# EAGLE library part USB-2410-06 (library parts)
Lumberg 2410 06 USB-A connector
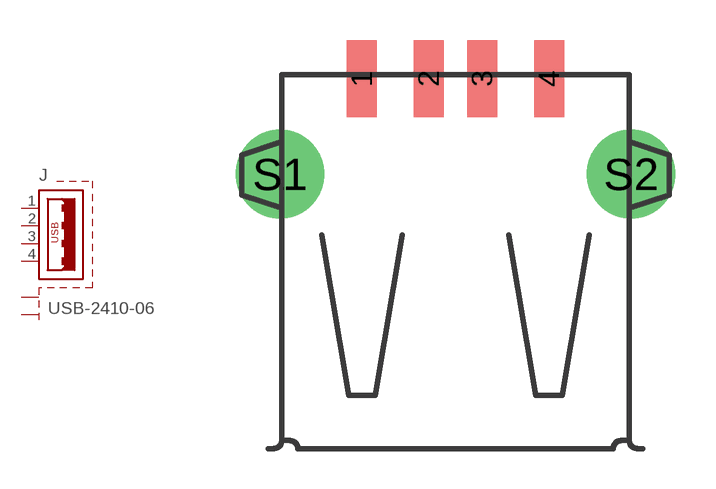
[diagram p7: symbol with the pads of USB-2410-06; footprint USB-2410-06]

Designator prefix J

## USB-2410-06 (RS: 737-8791)  [USB-2410-06]
1  VCC  pas
2  D-  pas
3  D+  pas
4  GND  pas
S1  S1  pas
S2  S2  pas

## Footprint USB-2410-06 (pad centres in mm)
USB connector, surface mount
smd 1.12 x 2.88: 1 -3.5,13.86; 2 -1,13.86; 3 1,13.86; 4 3.5,13.86
drill 2.3: S1 -6.57,10.28; S2 6.57,10.28